# EAGLE library part EEE-FK1E122SV (library EEE-FK1E122SV)
Aluminium Electroyltic Capacitor, Radial, Vibration-Proof Source: Datasheet <http://industrial.panasonic.com/cdbs/www-data/pdf/RDE0000/ABA0000C1247.pdf>
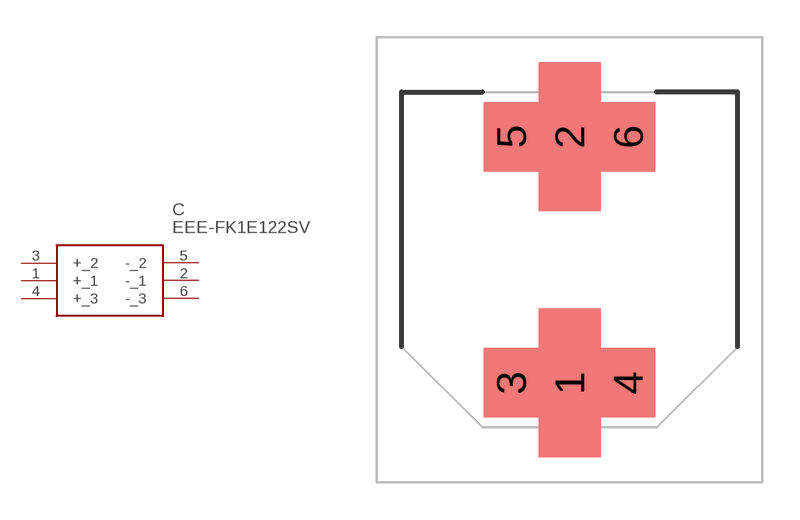
[diagram p0: symbol with the pads of EEEFK0J332AV; footprint EEEFK0J332AV]

Designator prefix C

## EEE-FK1E122SV (Description: Aluminium Electroyltic Capacitor, Radial, Vibration-Proof; Height: 14.3mm; Manufacturer_Name: Panasonic; Manufacturer_Part_Number: EEE-FK1E122SV; Mouser_Part_Number: 667-EEE-FK1E122SV; Mouser_Price-Stock: https://www.mouser.co.uk/ProductDetail/Panasonic/EEE-FK1E122SV?qs=BZBei1rCqCBRZbaWz387NA%3D%3D)  [EEEFK0J332AV]
1  +_1
2  -_1
3  +_2
4  +_3
5  -_2
6  -_3

## Footprint EEEFK0J332AV (pad centres in mm)
VibrationProof_H13
smd 2.5 x 6: 1 0,-4.95; 2 0,4.95
smd 2.2 x 2.8: 3 -2.35,-4.95; 4 2.35,-4.95; 5 -2.35,4.95; 6 2.35,4.95